# Altium schematic symbol library EMDC_Power.SchLib: 22 symbols
Pins are listed as number, name and electrical type; pins without a type are passive.

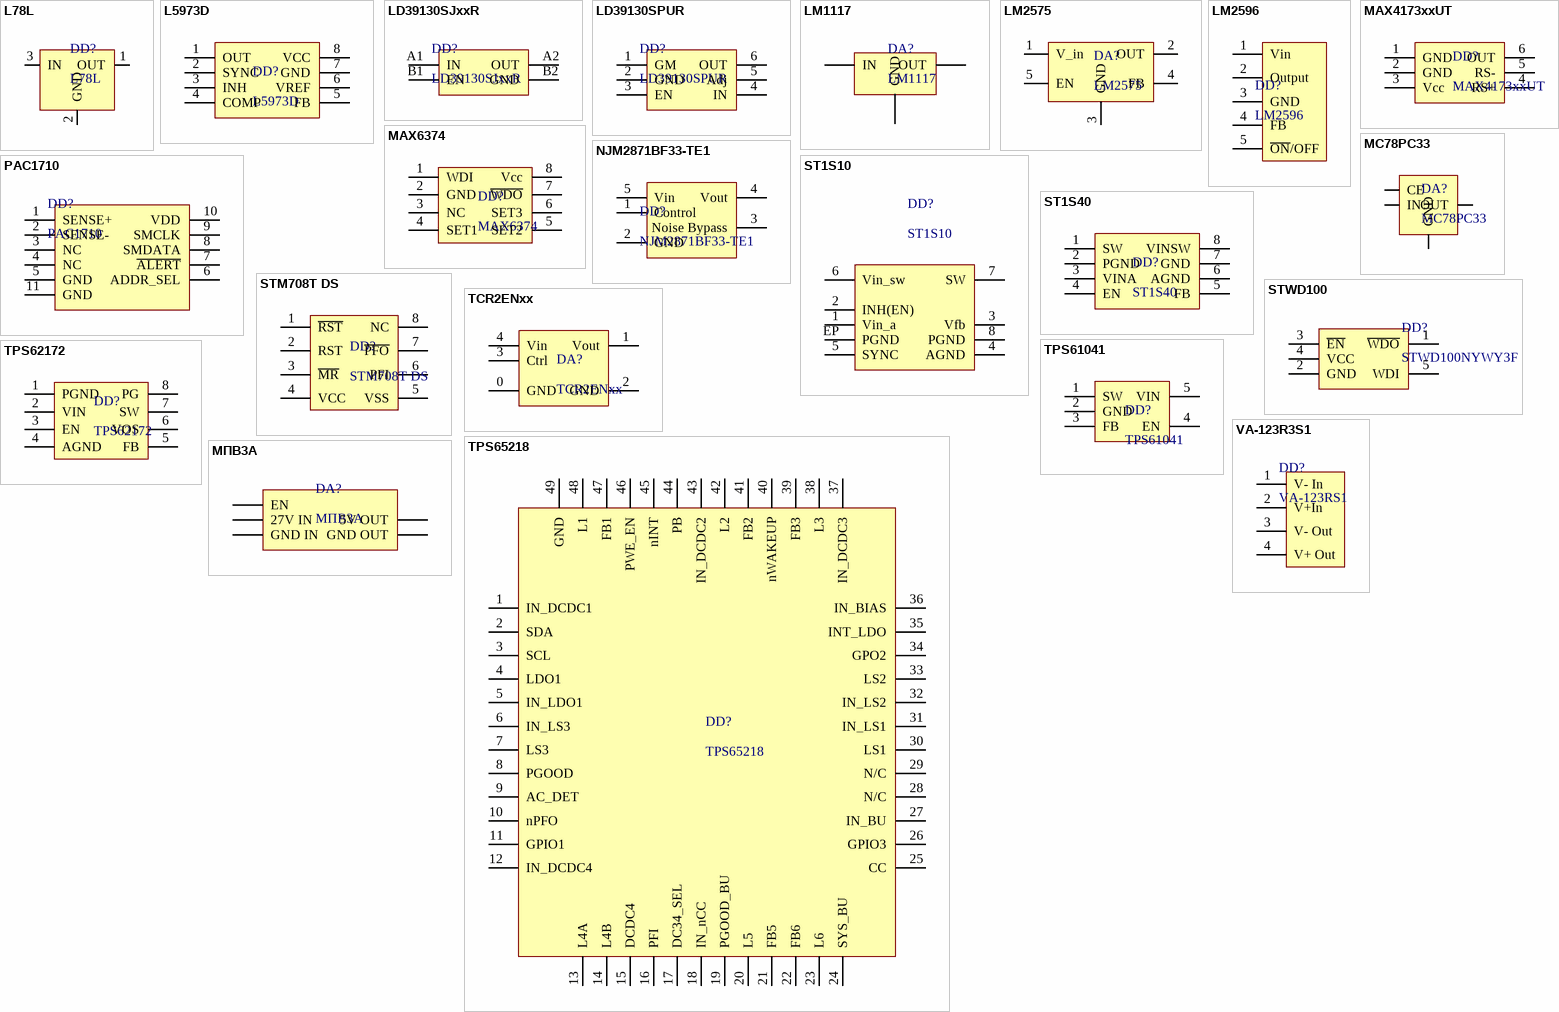
[diagram p0: symbols L78L to МПВ3А]

## L78L
designator DD?
Linear positive voltage regulator
footprint SOT-89
pins: 1 OUT, 2 GND, 3 IN

## L5973D
designator DD?
2.5A step-down DC-DC
footprint HSOP-8EP
pins: 1 OUT (power), 2 SYNC (power), 3 INH (power), 4 COMP (power), 5 FB (power), 6 VREF (power), 7 GND (power), 8 VCC (power)

## LD39130SJxxR
designator DD?
ST LDO Fixed CSP4
footprint CSP-4
pins: A1 IN, A2 OUT, B1 EN, B2 GND

## LD39130SPUR
designator DD?
ST LDO Adjustable DFN6
footprint DFN-6 1.2x1.3
pins: 1 GM, 2 GND, 3 EN, 4 IN, 5 Adj, 6 OUT

## LM1117
designator DA?
3.3V 800mA LDO
footprint SOT-223
pins: 1 GND, 2 OUT, 3 IN

## LM2575
designator DA?
DC-DC converter
footprint TO-220-5
pins: 1 V_in (power), 2 OUT (power), 3 GND (power), 4 FB (power), 5 EN (power)

## LM2596
designator DD?
DC-DC converter
footprint TO-263
pins: 1 Vin, 2 Output, 3 GND, 4 FB, 5 ~{ON}/OFF

## MAX4173xxUT
designator DD?
MAX4173 current measurement IC SOT-23-6
footprint SOT-23-6
pins: 1 GND, 2 GND, 3 Vcc, 4 RS+, 5 RS-, 6 OUT

## MAX6374
designator DD?
Watchdog
footprint SOT-23-8
pins: 1 WDI, 2 GND, 3 NC, 4 SET1, 5 SET2, 6 SET3, 7 ~{WDO}, 8 Vcc

## MC78PC33
designator DA?
3.3V 150mA LDO
footprint SOT-23-5
pins: 1 IN, 2 GND, 3 CE, 5 OUT

## NJM2871BF33-TE1
designator DD?
3.3V 150mA ldo
footprint SOT-23-5
pins: 1 Control, 2 GND, 3 Noise Bypass, 4 Vout, 5 Vin

## PAC1710
designator DD?
SMSC High-Side currrent sense monitor with power calculations
footprint DFN-10 3x3
pins: 1 SENSE+, 2 SENSE-, 3 NC, 4 NC, 5 GND, 6 ADDR_SEL, 7 ~{ALERT}, 8 SMDATA, 9 SMCLK, 10 VDD, 11 GND

## ST1S10
designator DD?
ST DC-DC Converter
footprint SO-8EP
footprint DFN-8 4x4
pins: 1 Vin_a, 2 INH(EN), 3 Vfb, 4 AGND, 5 SYNC, 6 Vin_sw, 7 SW, 8 PGND, EP PGND

## ST1S40
designator DD?
Buck controller
footprint SO-8
pins: 1 SW, 2 PGND, 3 VINA, 4 EN, 5 FB, 6 AGND, 7 GND, 8 VINSW

## STM708T DS
designator DD?
3V power supervisor
footprint TSSOP-8
footprint SO-8
pins: 1 ~{RST}, 2 RST, 3 ~{MR}, 4 VCC, 5 VSS, 6 PFI, 7 ~{PFO}, 8 NC

## STWD100
designator DD?, comment STWD100NYWY3F
STWD100 watchdog 1.6s SOT32-5
footprint SOT-23-5
pins: 1 ~{WDO}, 2 GND, 3 ~{EN}, 4 VCC, 5 WDI

## TCR2ENxx
designator DA?
Toshiba TCR2EN series low-dropout LDO
footprint TCR2EN
pins: 0 GND, 1 Vout, 2 GND, 3 Ctrl, 4 Vin

## TPS61041
designator DD?
TI LED driver / boost converter
footprint SOT-23-5
pins: 1 SW, 2 GND, 3 FB, 4 EN, 5 VIN

## TPS62172
designator DD?
3.3V DC-DC Step-Down
footprint S-PWSON-N8
pins: 1 PGND, 2 VIN, 3 EN, 4 AGND, 5 FB, 6 VOS, 7 SW, 8 PG

## TPS65218
designator DD?
TPS65218 TI Power Management for Cortex-A8/A9 and FPGA
footprint S-PVQFN-48 (S-PVQFN 48pin TI package)
pins: 1 IN_DCDC1, 2 SDA, 3 SCL, 4 LDO1, 5 IN_LDO1, 6 IN_LS3, 7 LS3, 8 PGOOD, 9 AC_DET, 10 nPFO, 11 GPIO1, 12 IN_DCDC4, 13 L4A, 14 L4B, 15 DCDC4, 16 PFI, 17 DC34_SEL, 18 IN_nCC, 19 PGOOD_BU, 20 L5, 21 FB5, 22 FB6, 23 L6, 24 SYS_BU, 25 CC, 26 GPIO3, 27 IN_BU, 28 N/C, 29 N/C, 30 LS1, 31 IN_LS1, 32 IN_LS2, 33 LS2, 34 GPO2, 35 INT_LDO, 36 IN_BIAS, 37 IN_DCDC3, 38 L3, 39 FB3, 40 nWAKEUP, 41 FB2, 42 L2, 43 IN_DCDC2, 44 PB, 45 nINT, 46 PWE_EN, 47 FB1, 48 L1, 49 GND

## VA-123R3S1
designator DD?, comment VA-123RS1
DC-DC Converter module
footprint SIL-4
pins: 1 V- In, 2 V+In, 3 V- Out, 4 V+ Out

## МПВ3А
designator DA?
DC-DC converter
footprint МПВ3А
pins: 2 27V IN, 11 EN, 14 5V OUT, 16 GND OUT, 22 GND IN